# Altium footprint library LARS_409_CLOCKS.PCBLIB: 6 footprints
Each footprint in its own frame and in the unit in brackets; x right, y up, seen from the top. Pads: shape width x height; smd on the part's side, far side on the other; paste and mask are expansions set on the pad; w line width, h text height; cw(c..) or ccw(c..) is an arc to the next point about the centre after c.
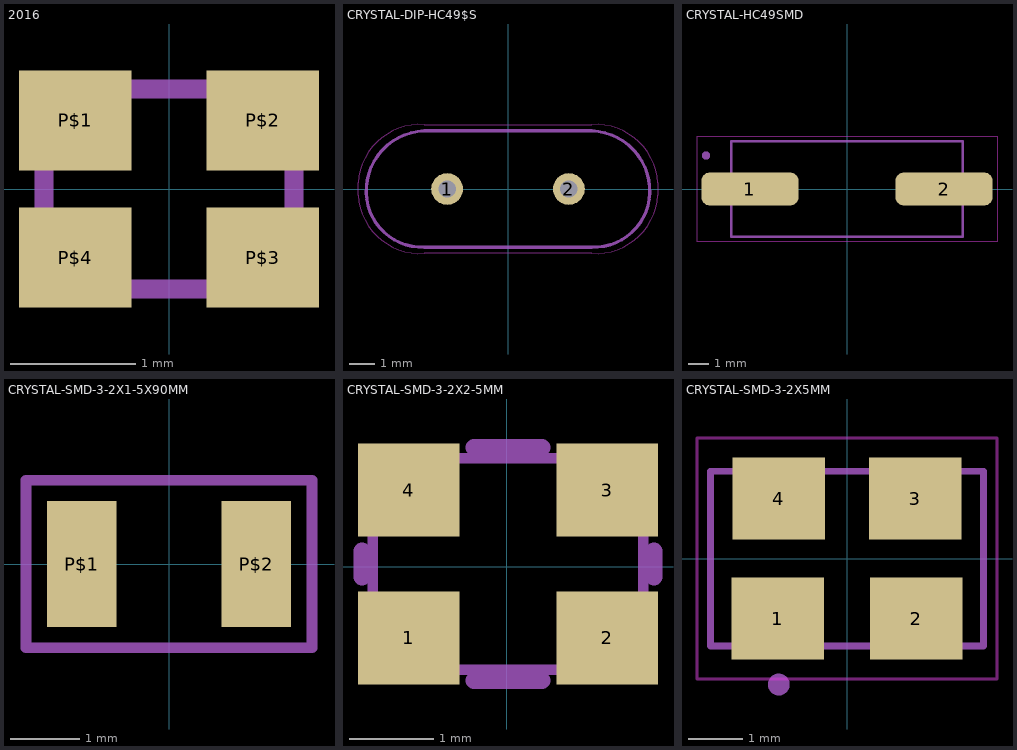
[diagram p0: the footprints below, top view; thin cyan lines are the x and y axes]

## 2016 [mil]
pads (4):
  rect 35.43x31.5 smd: P$1(-29.53,21.65) P$2(29.53,21.65) P$3(29.53,-21.65) P$4(-29.53,-21.65)
tPlace:
  lines w6: -39.37,-31.5 39.37,-31.5 39.37,31.5 -39.37,31.5 -39.37,-31.5

## CRYSTAL-DIP-HC49$S [mm]
pads (2):
  round 1.27 hole 0.7: 1(-2.44,0) 2(2.44,0)
Top keep-out:
  lines w0.05: -6,-0.25 ccw(c-3.51,-0.09) -3.35,-2.58 3.35,-2.58 ccw(c3.51,-0.09) 6,-0.25 6,0.25 ccw(c3.51,0.09) 3.35,2.58 -3.35,2.58 ccw(c-3.51,0.09) -6,0.25 -6,-0.25
tDocu:
  lines w0.127: -5.675,-0.175 ccw(c-3.435,-0.09) -3.35,-2.33 3.35,-2.33 ccw(c3.435,-0.09) 5.675,-0.175 ccw(c3.26,-0.085) 3.35,2.33 -3.35,2.33 ccw(c-3.26,-0.085) -5.675,-0.175
tPlace:
  lines w0.127: -5.675,-0.175 ccw(c-3.435,-0.09) -3.35,-2.33 3.35,-2.33 ccw(c3.435,-0.09) 5.675,-0.175 ccw(c3.26,-0.085) 3.35,2.33 -3.35,2.33 ccw(c-3.26,-0.085) -5.675,-0.175

## CRYSTAL-HC49SMD [mm]
pads (2):
  rrect50% 4.8x1.62 smd: 1(-4.79,0) 2(4.79,0)
Top keep-out:
  lines w0.05: -7.4,-2.6 -7.4,2.6 7.4,2.6 7.4,-2.6 -7.4,-2.6
tDocu:
  circle w0.2: c-6.95,1.65 r0.1
  lines w0.127: -5.7,-2.35 -5.7,2.35 5.7,2.35 5.7,-2.35 -5.7,-2.35
tPlace:
  circle w0.2: c-6.95,1.65 r0.1
  lines w0.127: -5.7,-1.42 -5.7,-2.35 5.7,-2.35 5.7,-1.42 ; -5.7,1.42 -5.7,2.35 5.7,2.35 5.7,1.42

## CRYSTAL-SMD-3-2X1-5X90MM [mm]
pads (2):
  rect 1x1.8 smd: P$1(-1.25,0) P$2(1.25,0)
tPlace:
  lines w0.152: -2.05,-1.2 2.05,-1.2 2.05,1.2 -2.05,1.2 -2.05,-1.2

## CRYSTAL-SMD-3-2X2-5MM [mm]
pads (4):
  rect 1.2x1.1 smd: 1(-1.159,-0.843) 2(1.191,-0.843) 3(1.191,0.907) 4(-1.159,0.907)
tDocu:
  region: -1.584,0.382 -1.584,1.182 -0.584,1.182 -0.584,0.382
  region: 1.616,-0.318 1.616,-1.118 0.616,-1.118 0.616,-0.318
  region: -1.584,-1.118 -1.584,-0.318 -0.584,-0.318 -0.584,-1.118
  region: 1.616,1.182 1.616,0.382 0.616,0.382 0.616,1.182
  lines w0.127: -1.584,-1.218 -1.584,1.282 1.616,1.282 1.616,-1.218 -1.584,-1.218
tPlace:
  lines w0.203: -1.711,-0.118 -1.711,0.182 ; -0.384,-1.345 0.416,-1.345 ; -0.384,1.409 0.416,1.409 ; 1.743,-0.118 1.743,0.182

## CRYSTAL-SMD-3-2X5MM [mm]
pads (4):
  rect 1.7x1.5 smd: 1(-1.27,-1.1) 2(1.27,-1.1) 3(1.25,1.1) 4(-1.25,1.1)
Top keep-out:
  lines w0.05: -2.75,-2.21 -2.75,2.21 2.75,2.21 2.75,-2.21 -2.75,-2.21
tDocu:
  circle w0.2: c-1.25,-2.31 r0.1
  lines w0.127: -2.5,-1.6 -2.5,1.6 2.5,1.6 2.5,-1.6 -2.5,-1.6
tPlace:
  circle w0.2: c-1.25,-2.31 r0.1
  lines w0.127: -2.185,-1.6 -2.5,-1.6 -2.5,1.6 -2.185,1.6 ; 2.185,-1.6 2.5,-1.6 2.5,1.6 2.185,1.6